# EAGLE library part IR2520D (library MakeItLabs)
ADAPTIVE BALLAST CONTROL IC The IR2520D(S) is a complete adaptive ballast controller and 600V half-bridge driver integrated into a single IC for fluorescent lighting applications. Data Sheet No. PD60212 Rev A Source: www.irf.com .. ir2520.pdf
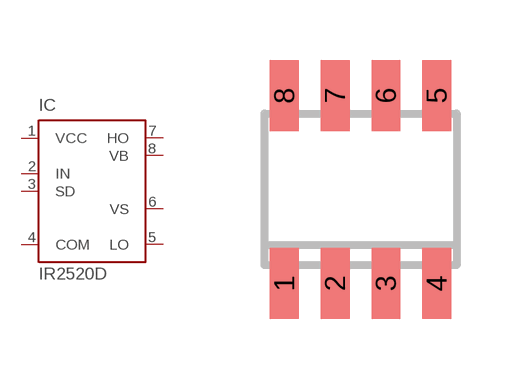
[diagram p5: symbol with the pads of SO08; footprint SO08]

Designator prefix IC

## IR2520DS (MF: INTERNATIONAL RECTIFIER(IR); MPN: IR21094DS; OC_FARNELL: 1080634; OC_NEWARK: 63J7917)  [SO08]
1  VCC  pwr
2  IN  in
3  SD  in
4  COM  pwr
5  LO  out
6  VS  in
7  HO  out
8  VB  pas

## Footprint SO08 (pad centres in mm)
8 Lead SOIC Data Sheet No. PD60212 Rev A Source: www.irf.com .. ir2520.pdf
smd 0.72 x 1.78: 1 -1.905,-2.35; 2 -0.635,-2.35; 3 0.635,-2.35; 4 1.905,-2.35; 5 1.905,2.35; 6 0.635,2.35; 7 -0.635,2.35; 8 -1.905,2.35